# EAGLE library part LMV822M (library ECE380)
Dual Op amp LMV822M
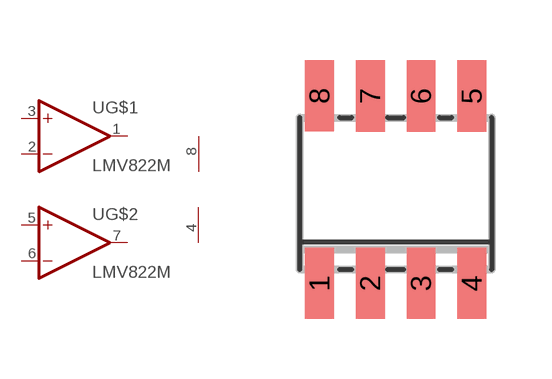
[diagram p5: symbol with the pads of SO-8; footprint SO-8]

Designator prefix -; gates G$1=OPAMP_WO_PINS G$2=OPAMP_WO_PINS G$3=VP_VN

## LMV822M  [SO-8]
1  G$1:OUT  out
2  G$1:-  in
3  G$1:+  in
4  G$3:VN  in
5  G$2:+  in
6  G$2:-  in
7  G$2:OUT  out
8  G$3:VP  in

## Footprint SO-8 (pad centres in mm)
SO-8 Package
smd 0.72 x 1.78: 1 -1.905,-2.34; 2 -0.635,-2.34; 3 0.635,-2.34; 4 1.905,-2.34; 5 1.905,2.34; 6 0.635,2.34; 7 -0.635,2.34; 8 -1.905,2.35